# EAGLE library part STEF05 (library power)
The STEF05 is an integrated electronic fuse optimized for monitoring output current and input voltage. Connected in series to a 5 V rail, it is capable of protecting the electronic circuitry on its output from overcurrent and overvoltage. The device has a controlled delay and turn-on time. When an overload condition occurs, the STEF05 limits the output current to a predefined safe value. If the anomalous overload condition persists, it goes into an open state, disconnecting the load from the power supply. If a continuous short-circuit is present on the board, when power is re-applied the E-fuse initially limits the output current to a safe value, and then again goes into an open state. The device is equipped with a thermal protection circuit. The intervention of the thermal protection is signalled to the board monitoring circuits through a signal on the Fault pin. Unlike mechanical fuses, which must be physically replaced after a single event, the Efuse does not degrade in its performance after short-circuit/thermal protection interventions and it is reset either by recycling the supply voltage or using the Enable pin. The companion chip for 12 V power rails is also available with part number STEF12.
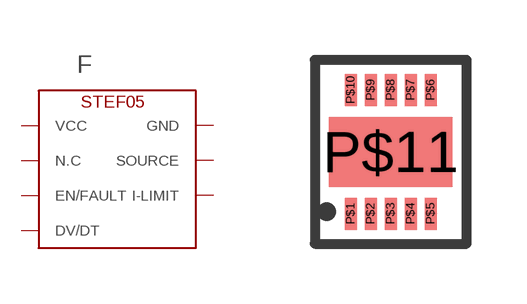
[diagram p5: symbol with the pads of DFN-10; footprint DFN-10]

Designator prefix F

## STEF05  [DFN-10]
P$1  SOURCE
P$2  SOURCE
P$3  SOURCE
P$4  SOURCE
P$5  SOURCE
P$6  N.C  nc
P$7  I-LIMIT  in
P$8  EN/FAULT
P$9  DV/DT
P$10  GND  pwr
P$11  VCC  pwr

## Footprint DFN-10 (pad centres in mm)
smd 0.3 x 0.8: P$1 0,-0.05; P$2 0.5,-0.05; P$3 1,-0.05; P$4 1.5,-0.05; P$5 2,-0.05; P$6 2,3.05; P$7 1.5,3.05; P$8 1,3.05; P$9 0.5,3.05; P$10 0,3.05
smd 3.1 x 1.75: P$11 1,1.5